# Altium footprint library Connector_JST.PcbLib: 558 footprints (part 27 of 35)
Each footprint in its own frame and in the unit in brackets; x right, y up, seen from the top. Pads: shape width x height; smd on the part's side, far side on the other; paste and mask are expansions set on the pad; w line width, h text height; cw(c..) or ccw(c..) is an arc to the next point about the centre after c.
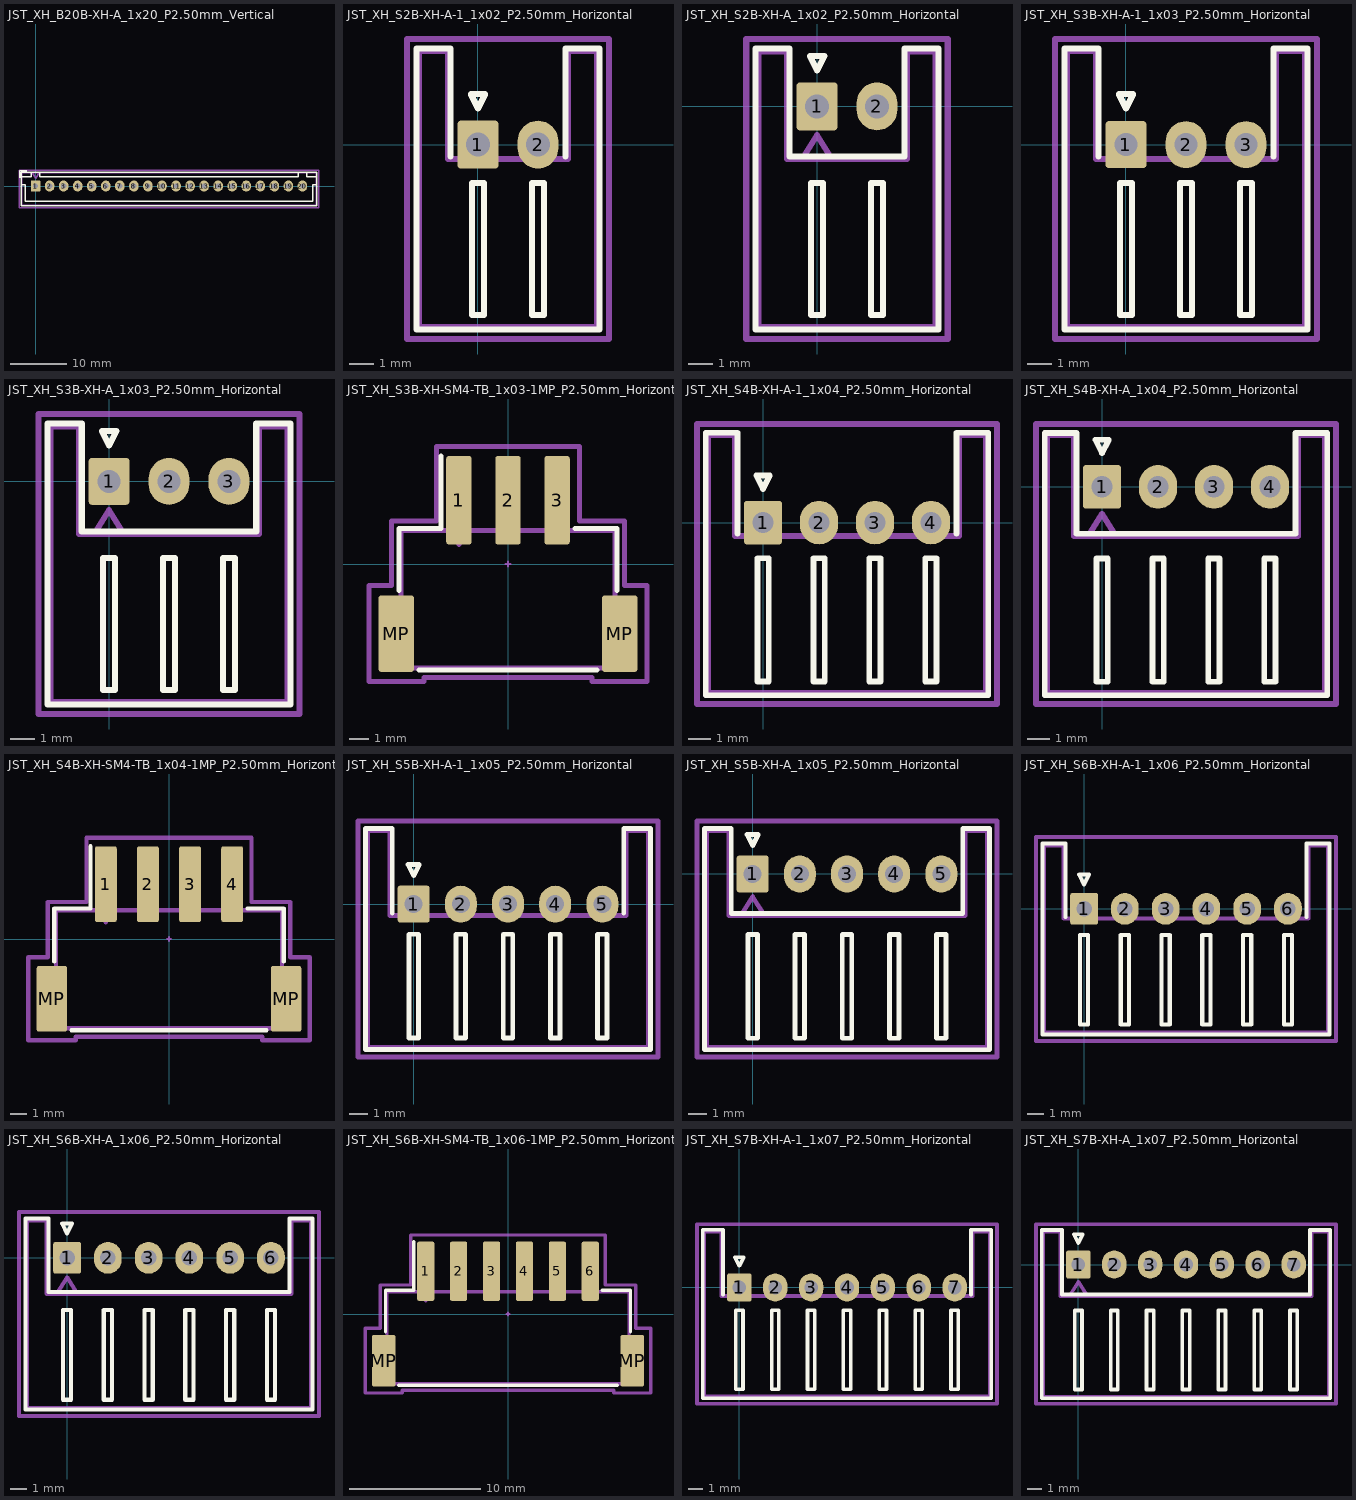
[diagram p26: the footprints below, top view; thin cyan lines are the x and y axes]

## JST_XH_B20B-XH-A_1x20_P2.50mm_Vertical [mm] "JST_XH_B20B-XH-A_1x20_P2.50mm_Vertical"
pads (20):
  rrect15% 1.7x1.95 hole 0.95: 1(0,0)
  rrect100% 1.7x1.95 hole 0.95: 2(2.5,0) 3(5,0) 4(7.5,0) 5(10,0) 6(12.5,0) 7(15,0) 8(17.5,0) 9(20,0) 10(22.5,0) 11(25,0) 12(27.5,0) 13(30,0) 14(32.5,0) 15(35,0) 16(37.5,0) 17(40,0) 18(42.5,0) 19(45,0) 20(47.5,0)
F.SilkS:
  lines w0.254: -2.85,1.5 -2.85,2.75 -1.6,2.75 ; -2.55,0.2 -1.8,0.2 -1.8,-2.75 23.75,-2.75 49.3,-2.75 49.3,0.2 50.05,0.2 ; -2.56,-3.51 50.06,-3.51 50.06,2.46 -2.56,2.46 -2.56,-3.51 ; -2.55,1.7 -0.75,1.7 -0.75,2.45 -2.55,2.45 -2.55,1.7 ; 0.75,1.7 46.75,1.7 46.75,2.45 0.75,2.45 0.75,1.7 ; 48.25,1.7 50.05,1.7 50.05,2.45 48.25,2.45 48.25,1.7
Top Component Center:
  lines w0.127: -0.127,0 0.127,0 ; 0,-0.127 0,0.127
Top Assembly:
  lines w0.254: -0.625,2.35 0,1.35 0.625,2.35 ; -2.45,-3.4 49.95,-3.4 49.95,2.35 -2.45,2.35 -2.45,-3.4
Top Courtyard:
  lines w0.254: -2.95,-3.9 50.45,-3.9 50.45,2.85 -2.95,2.85 -2.95,-3.9
Top Designator:
  text ".Designator" at 20.319,-2.122 h1.52
3D body "JST_XH_B20B-XH-A_1x20_P2.50mm_Vertical.step": height 7, standoff -3.4, extent -2.45,-3.4 49.95,2.35

## JST_XH_S2B-XH-A-1_1x02_P2.50mm_Horizontal [mm] "JST_XH_S2B-XH-A-1_1x02_P2.50mm_Horizontal"
pads (2):
  rrect15% 1.7x2 hole 1: 1(0,0)
  rrect100% 1.7x2 hole 1: 2(2.5,0)
F.SilkS:
  lines w0.254: -1.14,-0.49 -1.14,4.01 -2.56,4.01 -2.56,-7.71 1.25,-7.71 5.06,-7.71 5.06,4.01 3.64,4.01 3.64,-0.49 ; -0.3,2.1 0.3,2.1 0,1.5 -0.3,2.1 ; -0.25,-7.1 -0.25,-1.6 0.25,-1.6 0.25,-7.1 -0.25,-7.1 ; 2.25,-7.1 2.25,-1.6 2.75,-1.6 2.75,-7.1 2.25,-7.1
Top Component Center:
  lines w0.127: -0.127,0 0.127,0 ; 0,-0.127 0,0.127
Top Assembly:
  lines w0.254: -0.625,-0.6 0,0.4 0.625,-0.6 ; -2.45,-7.6 -2.45,3.9 -1.25,3.9 -1.25,-0.6 1.25,-0.6 3.75,-0.6 3.75,3.9 4.95,3.9 4.95,-7.6 1.25,-7.6 -2.45,-7.6
Top Courtyard:
  lines w0.254: -2.95,-8.1 -2.95,4.4 5.45,4.4 5.45,-8.1 -2.95,-8.1
Top Designator:
  text ".Designator" at -2.287,2.831 h1.52
3D body "JST_XH_S2B-XH-A-1_1x02_P2.50mm_Horizontal.step": height 6.1, standoff -3.4, extent -2.45,-7.6 4.95,3.9

## JST_XH_S2B-XH-A_1x02_P2.50mm_Horizontal [mm] "JST_XH_S2B-XH-A_1x02_P2.50mm_Horizontal"
pads (2):
  rrect15% 1.7x2 hole 1: 1(0,0)
  rrect100% 1.7x2 hole 1: 2(2.5,0)
F.SilkS:
  lines w0.254: -2.56,-9.31 -2.56,2.41 -1.14,2.41 -1.14,-2.09 1.25,-2.09 3.64,-2.09 3.64,2.41 5.06,2.41 5.06,-9.31 1.25,-9.31 -2.56,-9.31 ; -0.3,2.1 0.3,2.1 0,1.5 -0.3,2.1 ; -0.25,-8.7 -0.25,-3.2 0.25,-3.2 0.25,-8.7 -0.25,-8.7 ; 2.25,-8.7 2.25,-3.2 2.75,-3.2 2.75,-8.7 2.25,-8.7
Top Component Center:
  lines w0.127: -0.127,0 0.127,0 ; 0,-0.127 0,0.127
Top Assembly:
  lines w0.254: -0.625,-2.2 0,-1.2 0.625,-2.2 ; -2.45,-9.2 -2.45,2.3 -1.25,2.3 -1.25,-2.2 1.25,-2.2 3.75,-2.2 3.75,2.3 4.95,2.3 4.95,-9.2 1.25,-9.2 -2.45,-9.2
Top Courtyard:
  lines w0.254: -2.95,-9.7 -2.95,2.81 5.45,2.81 5.45,-9.7 -2.95,-9.7
Top Designator:
  text ".Designator" at -2.16,-3.138 h1.52
3D body "JST_XH_S2B-XH-A_1x02_P2.50mm_Horizontal.step": height 6.1, standoff -3.4, extent -2.45,-9.2 4.95,2.3

## JST_XH_S3B-XH-A-1_1x03_P2.50mm_Horizontal [mm] "JST_XH_S3B-XH-A-1_1x03_P2.50mm_Horizontal"
pads (3):
  rrect15% 1.7x1.95 hole 0.95: 1(0,0)
  rrect100% 1.7x1.95 hole 0.95: 2(2.5,0) 3(5,0)
F.SilkS:
  lines w0.254: -1.14,-0.49 -1.14,4.01 -2.56,4.01 -2.56,-7.71 2.5,-7.71 7.56,-7.71 7.56,4.01 6.14,4.01 6.14,-0.49 ; -0.3,2.1 0,1.5 0.3,2.1 -0.3,2.1 ; -0.25,-7.1 0.25,-7.1 0.25,-1.6 -0.25,-1.6 -0.25,-7.1 ; 2.25,-7.1 2.75,-7.1 2.75,-1.6 2.25,-1.6 2.25,-7.1 ; 4.75,-7.1 5.25,-7.1 5.25,-1.6 4.75,-1.6 4.75,-7.1
Top Component Center:
  lines w0.127: -0.127,0 0.127,0 ; 0,-0.127 0,0.127
Top Assembly:
  lines w0.254: -0.625,-0.6 0,0.4 0.625,-0.6 ; -2.45,-7.6 2.5,-7.6 7.45,-7.6 7.45,3.9 6.25,3.9 6.25,-0.6 2.5,-0.6 -1.25,-0.6 -1.25,3.9 -2.45,3.9 -2.45,-7.6
Top Courtyard:
  lines w0.254: -2.95,-8.1 7.95,-8.1 7.95,4.4 -2.95,4.4 -2.95,-8.1
Top Designator:
  text ".Designator" at -0.89,2.958 h1.52
3D body "JST_XH_S3B-XH-A-1_1x03_P2.50mm_Horizontal.step": height 6.1, standoff -3.4, extent -2.45,-7.6 7.45,3.9

## JST_XH_S3B-XH-A_1x03_P2.50mm_Horizontal [mm] "JST_XH_S3B-XH-A_1x03_P2.50mm_Horizontal"
pads (3):
  rrect15% 1.7x1.95 hole 0.95: 1(0,0)
  rrect100% 1.7x1.95 hole 0.95: 2(2.5,0) 3(5,0)
F.SilkS:
  lines w0.254: -2.56,-9.31 2.5,-9.31 7.56,-9.31 7.56,2.41 6.14,2.41 6.14,-2.09 2.5,-2.09 -1.14,-2.09 -1.14,2.41 -2.56,2.41 -2.56,-9.31 ; -0.3,2.1 0,1.5 0.3,2.1 -0.3,2.1 ; -0.25,-8.7 0.25,-8.7 0.25,-3.2 -0.25,-3.2 -0.25,-8.7 ; 2.25,-8.7 2.75,-8.7 2.75,-3.2 2.25,-3.2 2.25,-8.7 ; 4.75,-8.7 5.25,-8.7 5.25,-3.2 4.75,-3.2 4.75,-8.7
Top Component Center:
  lines w0.127: -0.127,0 0.127,0 ; 0,-0.127 0,0.127
Top Assembly:
  lines w0.254: -0.625,-2.2 0,-1.2 0.625,-2.2 ; -2.45,-9.2 2.5,-9.2 7.45,-9.2 7.45,2.3 6.25,2.3 6.25,-2.2 2.5,-2.2 -1.25,-2.2 -1.25,2.3 -2.45,2.3 -2.45,-9.2
Top Courtyard:
  lines w0.254: -2.95,-9.7 7.95,-9.7 7.95,2.81 -2.95,2.81 -2.95,-9.7
Top Designator:
  text ".Designator" at -1.017,1.561 h1.52
3D body "JST_XH_S3B-XH-A_1x03_P2.50mm_Horizontal.step": height 6.1, standoff -3.4, extent -2.45,-9.2 7.45,2.3

## JST_XH_S3B-XH-SM4-TB_1x03-1MP_P2.50mm_Horizontal [mm] "JST_XH_S3B-XH-SM4-TB_1x03-1MP_P2.50mm_Horizontal"
pads (5):
  rrect19% 1.3x4.5 smd: 1(-2.5,3.25) 2(0,3.25) 3(2.5,3.25)
  rrect14% 1.8x3.9 smd: MP(-5.7,-3.55) MP(5.7,-3.55)
F.SilkS:
  lines w0.254: -5.56,-1.34 -5.56,1.81 -3.41,1.81 -3.41,5.5 ; -4.54,-5.41 4.54,-5.41 ; 3.41,1.81 5.56,1.81 5.56,-1.34
Top Component Center:
  lines w0.127: -0.127,0 0.127,0 ; 0,-0.127 0,0.127
Top Assembly:
  lines w0.254: -3,1.7 -2.5,0.993 -2,1.7 ; -5.45,-5.3 5.45,-5.3 5.45,1.7 -5.45,1.7 -5.45,-5.3
Top Courtyard:
  lines w0.254: -7.1,-6 -4.29,-6 -4.29,-5.8 4.29,-5.8 4.29,-6 7.1,-6 7.1,-1.09 5.95,-1.09 5.95,2.2 3.65,2.2 3.65,6 -3.65,6 -3.65,2.2 -5.95,2.2 -5.95,-1.09 -7.1,-1.09 -7.1,-6
Top Designator:
  text ".Designator" at -3.43,-0.344 h1.52

## JST_XH_S4B-XH-A-1_1x04_P2.50mm_Horizontal [mm] "JST_XH_S4B-XH-A-1_1x04_P2.50mm_Horizontal"
pads (4):
  rrect15% 1.7x1.95 hole 0.95: 1(0,0)
  rrect100% 1.7x1.95 hole 0.95: 2(2.5,0) 3(5,0) 4(7.5,0)
F.SilkS:
  lines w0.254: -1.14,-0.49 -1.14,4.01 -2.56,4.01 -2.56,-7.71 3.75,-7.71 10.06,-7.71 10.06,4.01 8.64,4.01 8.64,-0.49 ; -0.3,2.1 0.3,2.1 0,1.5 -0.3,2.1 ; -0.25,-7.1 -0.25,-1.6 0.25,-1.6 0.25,-7.1 -0.25,-7.1 ; 2.25,-7.1 2.25,-1.6 2.75,-1.6 2.75,-7.1 2.25,-7.1 ; 4.75,-7.1 4.75,-1.6 5.25,-1.6 5.25,-7.1 4.75,-7.1 ; 7.25,-7.1 7.25,-1.6 7.75,-1.6 7.75,-7.1 7.25,-7.1
Top Component Center:
  lines w0.127: -0.127,0 0.127,0 ; 0,-0.127 0,0.127
Top Assembly:
  lines w0.254: -0.625,-0.6 0,0.4 0.625,-0.6 ; -2.45,-7.6 -2.45,3.9 -1.25,3.9 -1.25,-0.6 3.75,-0.6 8.75,-0.6 8.75,3.9 9.95,3.9 9.95,-7.6 3.75,-7.6 -2.45,-7.6
Top Courtyard:
  lines w0.254: -2.95,-8.1 -2.95,4.4 10.45,4.4 10.45,-8.1 -2.95,-8.1
Top Designator:
  text ".Designator" at 0.253,2.704 h1.52
3D body "JST_XH_S4B-XH-A-1_1x04_P2.50mm_Horizontal.step": height 6.1, standoff -3.4, extent -2.45,-7.6 9.95,3.9

## JST_XH_S4B-XH-A_1x04_P2.50mm_Horizontal [mm] "JST_XH_S4B-XH-A_1x04_P2.50mm_Horizontal"
pads (4):
  rrect15% 1.7x1.95 hole 0.95: 1(0,0)
  rrect100% 1.7x1.95 hole 0.95: 2(2.5,0) 3(5,0) 4(7.5,0)
F.SilkS:
  lines w0.254: -2.56,-9.31 3.75,-9.31 10.06,-9.31 10.06,2.41 8.64,2.41 8.64,-2.09 3.75,-2.09 -1.14,-2.09 -1.14,2.41 -2.56,2.41 -2.56,-9.31 ; -0.3,2.1 0,1.5 0.3,2.1 -0.3,2.1 ; -0.25,-8.7 0.25,-8.7 0.25,-3.2 -0.25,-3.2 -0.25,-8.7 ; 2.25,-8.7 2.75,-8.7 2.75,-3.2 2.25,-3.2 2.25,-8.7 ; 4.75,-8.7 5.25,-8.7 5.25,-3.2 4.75,-3.2 4.75,-8.7 ; 7.25,-8.7 7.75,-8.7 7.75,-3.2 7.25,-3.2 7.25,-8.7
Top Component Center:
  lines w0.127: -0.127,0 0.127,0 ; 0,-0.127 0,0.127
Top Assembly:
  lines w0.254: -0.625,-2.2 0,-1.2 0.625,-2.2 ; -2.45,-9.2 3.75,-9.2 9.95,-9.2 9.95,2.3 8.75,2.3 8.75,-2.2 3.75,-2.2 -1.25,-2.2 -1.25,2.3 -2.45,2.3 -2.45,-9.2
Top Courtyard:
  lines w0.254: -2.95,-9.7 10.45,-9.7 10.45,2.81 -2.95,2.81 -2.95,-9.7
Top Designator:
  text ".Designator" at 0.761,1.434 h1.52
3D body "JST_XH_S4B-XH-A_1x04_P2.50mm_Horizontal.step": height 6.1, standoff -3.4, extent -2.45,-9.2 9.95,2.3

## JST_XH_S4B-XH-SM4-TB_1x04-1MP_P2.50mm_Horizontal [mm] "JST_XH_S4B-XH-SM4-TB_1x04-1MP_P2.50mm_Horizontal"
pads (6):
  rrect19% 1.3x4.5 smd: 1(-3.75,3.25) 2(-1.25,3.25) 3(1.25,3.25) 4(3.75,3.25)
  rrect14% 1.8x3.9 smd: MP(-6.95,-3.55) MP(6.95,-3.55)
F.SilkS:
  lines w0.254: -6.81,-1.34 -6.81,1.81 -4.66,1.81 -4.66,5.5 ; -5.79,-5.41 5.79,-5.41 ; 4.66,1.81 6.81,1.81 6.81,-1.34
Top Component Center:
  lines w0.127: -0.127,0 0.127,0 ; 0,-0.127 0,0.127
Top Assembly:
  lines w0.254: -4.25,1.7 -3.75,0.993 -3.25,1.7 ; -6.7,-5.3 6.7,-5.3 6.7,1.7 -6.7,1.7 -6.7,-5.3
Top Courtyard:
  lines w0.254: -8.35,-6 -5.54,-6 -5.54,-5.8 5.54,-5.8 5.54,-6 8.35,-6 8.35,-1.09 7.2,-1.09 7.2,2.2 4.9,2.2 4.9,6 -4.9,6 -4.9,2.2 -7.2,2.2 -7.2,-1.09 -8.35,-1.09 -8.35,-6
Top Designator:
  text ".Designator" at -3.43,-0.344 h1.52

## JST_XH_S5B-XH-A-1_1x05_P2.50mm_Horizontal [mm] "JST_XH_S5B-XH-A-1_1x05_P2.50mm_Horizontal"
pads (5):
  rrect15% 1.7x1.95 hole 0.95: 1(0,0)
  rrect100% 1.7x1.95 hole 0.95: 2(2.5,0) 3(5,0) 4(7.5,0) 5(10,0)
F.SilkS:
  lines w0.254: -1.14,-0.49 -1.14,4.01 -2.56,4.01 -2.56,-7.71 5,-7.71 12.56,-7.71 12.56,4.01 11.14,4.01 11.14,-0.49 ; -0.3,2.1 0.3,2.1 0,1.5 -0.3,2.1 ; -0.25,-7.1 -0.25,-1.6 0.25,-1.6 0.25,-7.1 -0.25,-7.1 ; 2.25,-7.1 2.25,-1.6 2.75,-1.6 2.75,-7.1 2.25,-7.1 ; 4.75,-7.1 4.75,-1.6 5.25,-1.6 5.25,-7.1 4.75,-7.1 ; 7.25,-7.1 7.25,-1.6 7.75,-1.6 7.75,-7.1 7.25,-7.1 ; 9.75,-7.1 9.75,-1.6 10.25,-1.6 10.25,-7.1 9.75,-7.1
Top Component Center:
  lines w0.127: -0.127,0 0.127,0 ; 0,-0.127 0,0.127
Top Assembly:
  lines w0.254: -0.625,-0.6 0,0.4 0.625,-0.6 ; -2.45,-7.6 -2.45,3.9 -1.25,3.9 -1.25,-0.6 5,-0.6 11.25,-0.6 11.25,3.9 12.45,3.9 12.45,-7.6 5,-7.6 -2.45,-7.6
Top Courtyard:
  lines w0.254: -2.95,-8.1 -2.95,4.4 12.95,4.4 12.95,-8.1 -2.95,-8.1
Top Designator:
  text ".Designator" at 1.65,2.196 h1.52
3D body "JST_XH_S5B-XH-A-1_1x05_P2.50mm_Horizontal.step": height 6.1, standoff -3.4, extent -2.45,-7.6 12.45,3.9

## JST_XH_S5B-XH-A_1x05_P2.50mm_Horizontal [mm] "JST_XH_S5B-XH-A_1x05_P2.50mm_Horizontal"
pads (5):
  rrect15% 1.7x1.95 hole 0.95: 1(0,0)
  rrect100% 1.7x1.95 hole 0.95: 2(2.5,0) 3(5,0) 4(7.5,0) 5(10,0)
F.SilkS:
  lines w0.254: -2.56,-9.31 -2.56,2.41 -1.14,2.41 -1.14,-2.09 5,-2.09 11.14,-2.09 11.14,2.41 12.56,2.41 12.56,-9.31 5,-9.31 -2.56,-9.31 ; -0.3,2.1 0.3,2.1 0,1.5 -0.3,2.1 ; -0.25,-8.7 -0.25,-3.2 0.25,-3.2 0.25,-8.7 -0.25,-8.7 ; 2.25,-8.7 2.25,-3.2 2.75,-3.2 2.75,-8.7 2.25,-8.7 ; 4.75,-8.7 4.75,-3.2 5.25,-3.2 5.25,-8.7 4.75,-8.7 ; 7.25,-8.7 7.25,-3.2 7.75,-3.2 7.75,-8.7 7.25,-8.7 ; 9.75,-8.7 9.75,-3.2 10.25,-3.2 10.25,-8.7 9.75,-8.7
Top Component Center:
  lines w0.127: -0.127,0 0.127,0 ; 0,-0.127 0,0.127
Top Assembly:
  lines w0.254: -0.625,-2.2 0,-1.2 0.625,-2.2 ; -2.45,-9.2 -2.45,2.3 -1.25,2.3 -1.25,-2.2 5,-2.2 11.25,-2.2 11.25,2.3 12.45,2.3 12.45,-9.2 5,-9.2 -2.45,-9.2
Top Courtyard:
  lines w0.254: -2.95,-9.7 -2.95,2.81 12.95,2.81 12.95,-9.7 -2.95,-9.7
Top Designator:
  text ".Designator" at 1.904,1.434 h1.52
3D body "JST_XH_S5B-XH-A_1x05_P2.50mm_Horizontal.step": height 6.1, standoff -3.4, extent -2.45,-9.2 12.45,2.3

## JST_XH_S6B-XH-A-1_1x06_P2.50mm_Horizontal [mm] "JST_XH_S6B-XH-A-1_1x06_P2.50mm_Horizontal"
pads (6):
  rrect15% 1.7x1.95 hole 0.95: 1(0,0)
  rrect100% 1.7x1.95 hole 0.95: 2(2.5,0) 3(5,0) 4(7.5,0) 5(10,0) 6(12.5,0)
F.SilkS:
  lines w0.254: -1.14,-0.49 -1.14,4.01 -2.56,4.01 -2.56,-7.71 6.25,-7.71 15.06,-7.71 15.06,4.01 13.64,4.01 13.64,-0.49 ; -0.3,2.1 0,1.5 0.3,2.1 -0.3,2.1 ; -0.25,-7.1 0.25,-7.1 0.25,-1.6 -0.25,-1.6 -0.25,-7.1 ; 2.25,-7.1 2.75,-7.1 2.75,-1.6 2.25,-1.6 2.25,-7.1 ; 4.75,-7.1 5.25,-7.1 5.25,-1.6 4.75,-1.6 4.75,-7.1 ; 7.25,-7.1 7.75,-7.1 7.75,-1.6 7.25,-1.6 7.25,-7.1 ; 9.75,-7.1 10.25,-7.1 10.25,-1.6 9.75,-1.6 9.75,-7.1 ; 12.25,-7.1 12.75,-7.1 12.75,-1.6 12.25,-1.6 12.25,-7.1
Top Component Center:
  lines w0.127: -0.127,0 0.127,0 ; 0,-0.127 0,0.127
Top Assembly:
  lines w0.254: -0.625,-0.6 0,0.4 0.625,-0.6 ; -2.45,-7.6 6.25,-7.6 14.95,-7.6 14.95,3.9 13.75,3.9 13.75,-0.6 6.25,-0.6 -1.25,-0.6 -1.25,3.9 -2.45,3.9 -2.45,-7.6
Top Courtyard:
  lines w0.254: -2.95,-8.1 15.45,-8.1 15.45,4.4 -2.95,4.4 -2.95,-8.1
Top Designator:
  text ".Designator" at 3.047,1.942 h1.52
3D body "JST_XH_S6B-XH-A-1_1x06_P2.50mm_Horizontal.step": height 6.1, standoff -3.4, extent -2.45,-7.6 14.95,3.9

## JST_XH_S6B-XH-A_1x06_P2.50mm_Horizontal [mm] "JST_XH_S6B-XH-A_1x06_P2.50mm_Horizontal"
pads (6):
  rrect15% 1.7x1.95 hole 0.95: 1(0,0)
  rrect100% 1.7x1.95 hole 0.95: 2(2.5,0) 3(5,0) 4(7.5,0) 5(10,0) 6(12.5,0)
F.SilkS:
  lines w0.254: -2.56,-9.31 6.25,-9.31 15.06,-9.31 15.06,2.41 13.64,2.41 13.64,-2.09 6.25,-2.09 -1.14,-2.09 -1.14,2.41 -2.56,2.41 -2.56,-9.31 ; -0.3,2.1 0,1.5 0.3,2.1 -0.3,2.1 ; -0.25,-8.7 0.25,-8.7 0.25,-3.2 -0.25,-3.2 -0.25,-8.7 ; 2.25,-8.7 2.75,-8.7 2.75,-3.2 2.25,-3.2 2.25,-8.7 ; 4.75,-8.7 5.25,-8.7 5.25,-3.2 4.75,-3.2 4.75,-8.7 ; 7.25,-8.7 7.75,-8.7 7.75,-3.2 7.25,-3.2 7.25,-8.7 ; 9.75,-8.7 10.25,-8.7 10.25,-3.2 9.75,-3.2 9.75,-8.7 ; 12.25,-8.7 12.75,-8.7 12.75,-3.2 12.25,-3.2 12.25,-8.7
Top Component Center:
  lines w0.127: -0.127,0 0.127,0 ; 0,-0.127 0,0.127
Top Assembly:
  lines w0.254: -0.625,-2.2 0,-1.2 0.625,-2.2 ; -2.45,-9.2 6.25,-9.2 14.95,-9.2 14.95,2.3 13.75,2.3 13.75,-2.2 6.25,-2.2 -1.25,-2.2 -1.25,2.3 -2.45,2.3 -2.45,-9.2
Top Courtyard:
  lines w0.254: -2.95,-9.7 15.45,-9.7 15.45,2.81 -2.95,2.81 -2.95,-9.7
Top Designator:
  text ".Designator" at 2.92,1.18 h1.52
3D body "JST_XH_S6B-XH-A_1x06_P2.50mm_Horizontal.step": height 6.1, standoff -3.4, extent -2.45,-9.2 14.95,2.3

## JST_XH_S6B-XH-SM4-TB_1x06-1MP_P2.50mm_Horizontal [mm] "JST_XH_S6B-XH-SM4-TB_1x06-1MP_P2.50mm_Horizontal"
pads (8):
  rrect19% 1.3x4.5 smd: 1(-6.25,3.25) 2(-3.75,3.25) 3(-1.25,3.25) 4(1.25,3.25) 5(3.75,3.25) 6(6.25,3.25)
  rrect14% 1.8x3.9 smd: MP(-9.45,-3.55) MP(9.45,-3.55)
F.SilkS:
  lines w0.254: -9.31,-1.34 -9.31,1.81 -7.16,1.81 -7.16,5.5 ; -8.29,-5.41 8.29,-5.41 ; 7.16,1.81 9.31,1.81 9.31,-1.34
Top Component Center:
  lines w0.127: -0.127,0 0.127,0 ; 0,-0.127 0,0.127
Top Assembly:
  lines w0.254: -6.75,1.7 -6.25,0.993 -5.75,1.7 ; -9.2,-5.3 9.2,-5.3 9.2,1.7 -9.2,1.7 -9.2,-5.3
Top Courtyard:
  lines w0.254: -10.85,-6 -8.04,-6 -8.04,-5.8 8.04,-5.8 8.04,-6 10.85,-6 10.85,-1.09 9.7,-1.09 9.7,2.2 7.4,2.2 7.4,6 -7.4,6 -7.4,2.2 -9.7,2.2 -9.7,-1.09 -10.85,-1.09 -10.85,-6
Top Designator:
  text ".Designator" at -3.43,-0.344 h1.52

## JST_XH_S7B-XH-A-1_1x07_P2.50mm_Horizontal [mm] "JST_XH_S7B-XH-A-1_1x07_P2.50mm_Horizontal"
pads (7):
  rrect15% 1.7x1.95 hole 0.95: 1(0,0)
  rrect100% 1.7x1.95 hole 0.95: 2(2.5,0) 3(5,0) 4(7.5,0) 5(10,0) 6(12.5,0) 7(15,0)
F.SilkS:
  lines w0.254: -1.14,-0.49 -1.14,4.01 -2.56,4.01 -2.56,-7.71 7.5,-7.71 17.56,-7.71 17.56,4.01 16.14,4.01 16.14,-0.49 ; -0.3,2.1 0.3,2.1 0,1.5 -0.3,2.1 ; -0.25,-7.1 -0.25,-1.6 0.25,-1.6 0.25,-7.1 -0.25,-7.1 ; 2.25,-7.1 2.25,-1.6 2.75,-1.6 2.75,-7.1 2.25,-7.1 ; 4.75,-7.1 4.75,-1.6 5.25,-1.6 5.25,-7.1 4.75,-7.1 ; 7.25,-7.1 7.25,-1.6 7.75,-1.6 7.75,-7.1 7.25,-7.1 ; 9.75,-7.1 9.75,-1.6 10.25,-1.6 10.25,-7.1 9.75,-7.1 ; 12.25,-7.1 12.25,-1.6 12.75,-1.6 12.75,-7.1 12.25,-7.1 ; 14.75,-7.1 14.75,-1.6 15.25,-1.6 15.25,-7.1 14.75,-7.1
Top Component Center:
  lines w0.127: -0.127,0 0.127,0 ; 0,-0.127 0,0.127
Top Assembly:
  lines w0.254: -0.625,-0.6 0,0.4 0.625,-0.6 ; -2.45,-7.6 -2.45,3.9 -1.25,3.9 -1.25,-0.6 7.5,-0.6 16.25,-0.6 16.25,3.9 17.45,3.9 17.45,-7.6 7.5,-7.6 -2.45,-7.6
Top Courtyard:
  lines w0.254: -2.95,-8.1 -2.95,4.4 17.95,4.4 17.95,-8.1 -2.95,-8.1
Top Designator:
  text ".Designator" at 3.936,2.069 h1.52
3D body "JST_XH_S7B-XH-A-1_1x07_P2.50mm_Horizontal.step": height 6.1, standoff -3.4, extent -2.45,-7.6 17.45,3.9

## JST_XH_S7B-XH-A_1x07_P2.50mm_Horizontal [mm] "JST_XH_S7B-XH-A_1x07_P2.50mm_Horizontal"
pads (7):
  rrect15% 1.7x1.95 hole 0.95: 1(0,0)
  rrect100% 1.7x1.95 hole 0.95: 2(2.5,0) 3(5,0) 4(7.5,0) 5(10,0) 6(12.5,0) 7(15,0)
F.SilkS:
  lines w0.254: -2.56,-9.31 7.5,-9.31 17.56,-9.31 17.56,2.41 16.14,2.41 16.14,-2.09 7.5,-2.09 -1.14,-2.09 -1.14,2.41 -2.56,2.41 -2.56,-9.31 ; -0.3,2.1 0,1.5 0.3,2.1 -0.3,2.1 ; -0.25,-8.7 0.25,-8.7 0.25,-3.2 -0.25,-3.2 -0.25,-8.7 ; 2.25,-8.7 2.75,-8.7 2.75,-3.2 2.25,-3.2 2.25,-8.7 ; 4.75,-8.7 5.25,-8.7 5.25,-3.2 4.75,-3.2 4.75,-8.7 ; 7.25,-8.7 7.75,-8.7 7.75,-3.2 7.25,-3.2 7.25,-8.7 ; 9.75,-8.7 10.25,-8.7 10.25,-3.2 9.75,-3.2 9.75,-8.7 ; 12.25,-8.7 12.75,-8.7 12.75,-3.2 12.25,-3.2 12.25,-8.7 ; 14.75,-8.7 15.25,-8.7 15.25,-3.2 14.75,-3.2 14.75,-8.7
Top Component Center:
  lines w0.127: -0.127,0 0.127,0 ; 0,-0.127 0,0.127
Top Assembly:
  lines w0.254: -0.625,-2.2 0,-1.2 0.625,-2.2 ; -2.45,-9.2 7.5,-9.2 17.45,-9.2 17.45,2.3 16.25,2.3 16.25,-2.2 7.5,-2.2 -1.25,-2.2 -1.25,2.3 -2.45,2.3 -2.45,-9.2
Top Courtyard:
  lines w0.254: -2.95,-9.7 17.95,-9.7 17.95,2.81 -2.95,2.81 -2.95,-9.7
Top Designator:
  text ".Designator" at 3.555,1.434 h1.52
3D body "JST_XH_S7B-XH-A_1x07_P2.50mm_Horizontal.step": height 6.1, standoff -3.4, extent -2.45,-9.2 17.45,2.3